# EAGLE library part 691366110008 (library Wuerth_Elektronik_eiCan_Terminal_Blocks_v2.0)
WR-TBL Serie 3221 - 3.50mm Horizontal PCB Header, 8 Pins
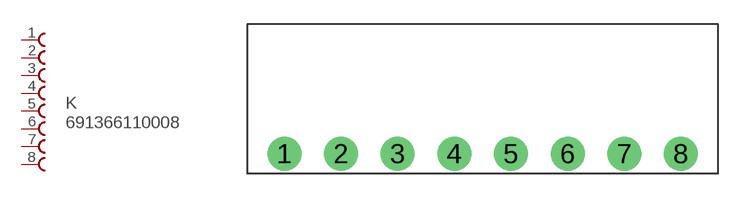
[diagram p0: symbol with the pads of 691322110008; footprint 691322110008]

Designator prefix K

## 691366110008  [691322110008]
1  1  pas
2  2  pas
3  3  pas
4  4  pas
5  5  pas
6  6  pas
7  7  pas
8  8  pas

## Footprint 691322110008 (pad centres in mm)
WR-TBL Serie 3221 - 3.50mm Horizontal PCB Header, 8 Pins
drill 1.4 round: 1 -12.25,0; 2 -8.75,0; 3 -5.25,0; 4 -1.75,0; 5 1.75,0; 6 5.25,0; 7 8.75,0; 8 12.25,0